# Altium schematic symbol library RTL8211E-VB-CG.SchLib: 1 symbol
Pins are listed as number, name and electrical type; pins without a type are passive.

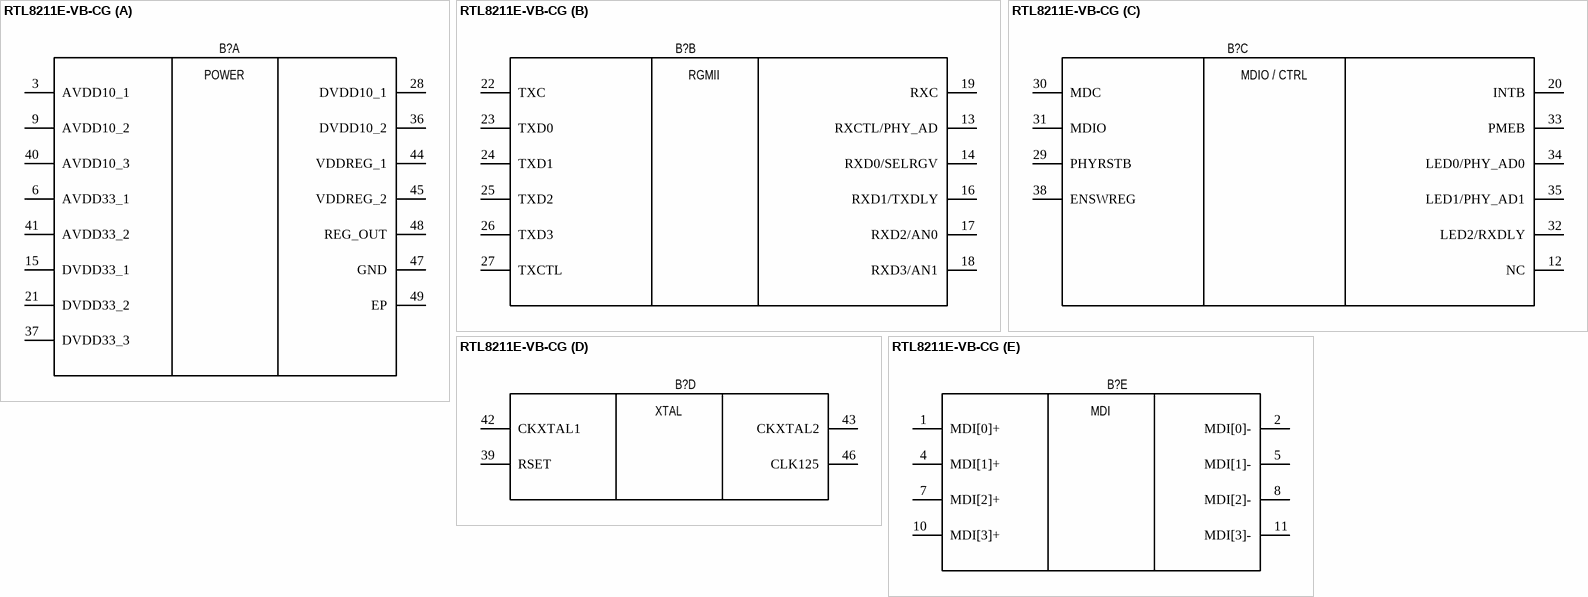
[diagram p0: symbol RTL8211E-VB-CG]

## RTL8211E-VB-CG
designator B?  (value not drawn)
h; Manufacturer_Name: Realtek; Geometry.Height: 1mm; Manufacturer_Part_Number: RTL8211E-VB-CG; Mouser Part Number: *; Mouser Price/Stock: *; Arrow Part Number: *; Arrow Price/Stock: *; Datasheet Link: http://download3.dvd-driver.cz/realtek/datasheets/pdf/rtl8211e(g)-vb(vl)-cg_datasheet_1.6.pdf
footprint QFN40P600X600X100-49N
part A pins: 3 AVDD10_1 (power), 6 AVDD33_1 (power), 9 AVDD10_2 (power), 15 DVDD33_1 (power), 21 DVDD33_2 (power), 28 DVDD10_1 (power), 36 DVDD10_2 (power), 37 DVDD33_3 (power), 40 AVDD10_3 (power), 41 AVDD33_2 (power), 44 VDDREG_1 (power), 45 VDDREG_2 (power), 47 GND (power), 48 REG_OUT (power), 49 EP (power)
part B pins: 13 RXCTL/PHY_AD (power), 14 RXD0/SELRGV (power), 16 RXD1/TXDLY (power), 17 RXD2/AN0 (power), 18 RXD3/AN1 (power), 19 RXC (power), 22 TXC (power), 23 TXD0 (power), 24 TXD1 (power), 25 TXD2 (power), 26 TXD3 (power), 27 TXCTL (power)
part C pins: 12 NC (power), 20 INTB (power), 29 PHYRSTB (power), 30 MDC (power), 31 MDIO (power), 32 LED2/RXDLY (power), 33 PMEB (power), 34 LED0/PHY_AD0 (power), 35 LED1/PHY_AD1 (power), 38 ENSWREG (power)
part D pins: 39 RSET (power), 42 CKXTAL1 (power), 43 CKXTAL2 (power), 46 CLK125 (power)
part E pins: 1 MDI[0]+ (power), 2 MDI[0]- (power), 4 MDI[1]+ (power), 5 MDI[1]- (power), 7 MDI[2]+ (power), 8 MDI[2]- (power), 10 MDI[3]+ (power), 11 MDI[3]- (power)
part A text: POWER
part B text: RGMII
part C text: MDIO / CTRL
part D text: XTAL
part E text: MDI